# EAGLE library part KSZ8041NL (library micrel)
Physical Layer Transceiver 10Base-T/100Base-TX
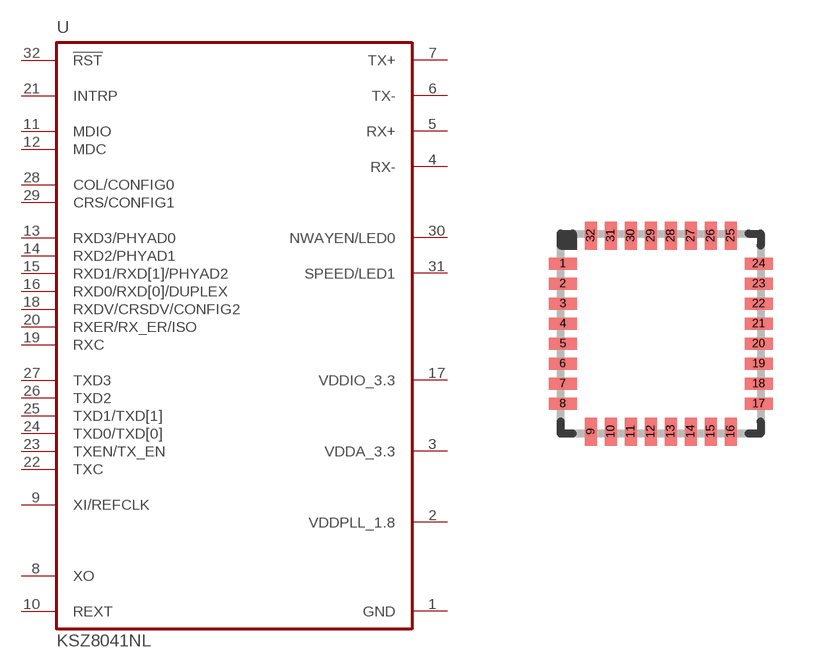
[diagram p8: symbol with the pads of MLF32; footprint MLF32]

Designator prefix U

## KSZ8041NL  [MLF32]
1  GND  pwr
2  VDDPLL_1.8  pwr
3  VDDA_3.3  pwr
4  RX-
5  RX+
6  TX-
7  TX+
8  XO  out
9  XI/REFCLK  in
10  REXT  out
11  MDIO
12  MDC  in
13  RXD3/PHYAD0  out
14  RXD2/PHYAD1  out
15  RXD1/RXD[1]/PHYAD2  out
16  RXD0/RXD[0]/DUPLEX  out
17  VDDIO_3.3  pwr
18  RXDV/CRSDV/CONFIG2  out
19  RXC  out
20  RXER/RX_ER/ISO  out
21  INTRP  out
22  TXC  out
23  TXEN/TX_EN  in
24  TXD0/TXD[0]  in
25  TXD1/TXD[1]  in
26  TXD2  in
27  TXD3  in
28  COL/CONFIG0  out
29  CRS/CONFIG1  out
30  NWAYEN/LED0
31  SPEED/LED1
32  !RST!  in

## Footprint MLF32 (pad centres in mm)
MLF32 Micro Lead Frame package
smd 0.7 x 0.3: 1 -2.45,1.75; 2 -2.45,1.25; 3 -2.45,0.75; 4 -2.45,0.25; 5 -2.45,-0.25; 6 -2.45,-0.75; 7 -2.45,-1.25; 8 -2.45,-1.75; 17 2.45,-1.75; 18 2.45,-1.25; 19 2.45,-0.75; 20 2.45,-0.25; 21 2.45,0.25; 22 2.45,0.75; 23 2.45,1.25; 24 2.45,1.75
smd 0.3 x 0.7: 9 -1.75,-2.45; 10 -1.25,-2.45; 11 -0.75,-2.45; 12 -0.25,-2.45; 13 0.25,-2.45; 14 0.75,-2.45; 15 1.25,-2.45; 16 1.75,-2.45; 25 1.75,2.45; 26 1.25,2.45; 27 0.75,2.45; 28 0.25,2.45; 29 -0.25,2.45; 30 -0.75,2.45; 31 -1.25,2.45; 32 -1.75,2.45